# EAGLE library part PCB_CONNECTOR_FEMALE (library Group Electornics Library v80)
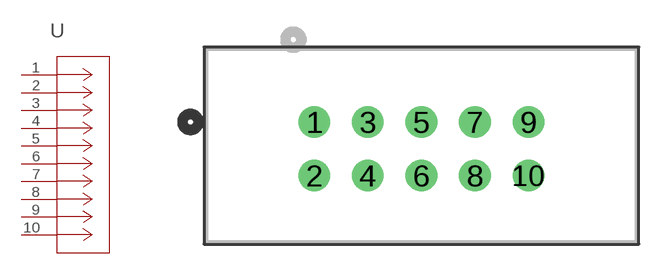
[diagram p3: symbol with the pads of SBH11-PBPC-D05-ST-BK; footprint SBH11-PBPC-D05-ST-BK]

Designator prefix -

## PCB_CONNECTOR_FEMALE  [SBH11-PBPC-D05-ST-BK]
1  1  pas
2  2  pas
3  3  pas
4  4  pas
5  5  pas
6  6  pas
7  7  pas
8  8  pas
9  9  pas
10  10  pas

## Footprint SBH11-PBPC-D05-ST-BK (pad centres in mm)
drill 0.991 pad 1.499: 1 0,0; 2 0,-2.54; 3 2.54,0; 4 2.54,-2.54; 5 5.08,0; 6 5.08,-2.54; 7 7.62,0; 8 7.62,-2.54; 9 10.16,0; 10 10.16,-2.54